# Altium schematic symbol library Connector.SchLib: 20 symbols
Pins are listed as number, name and electrical type; pins without a type are passive.

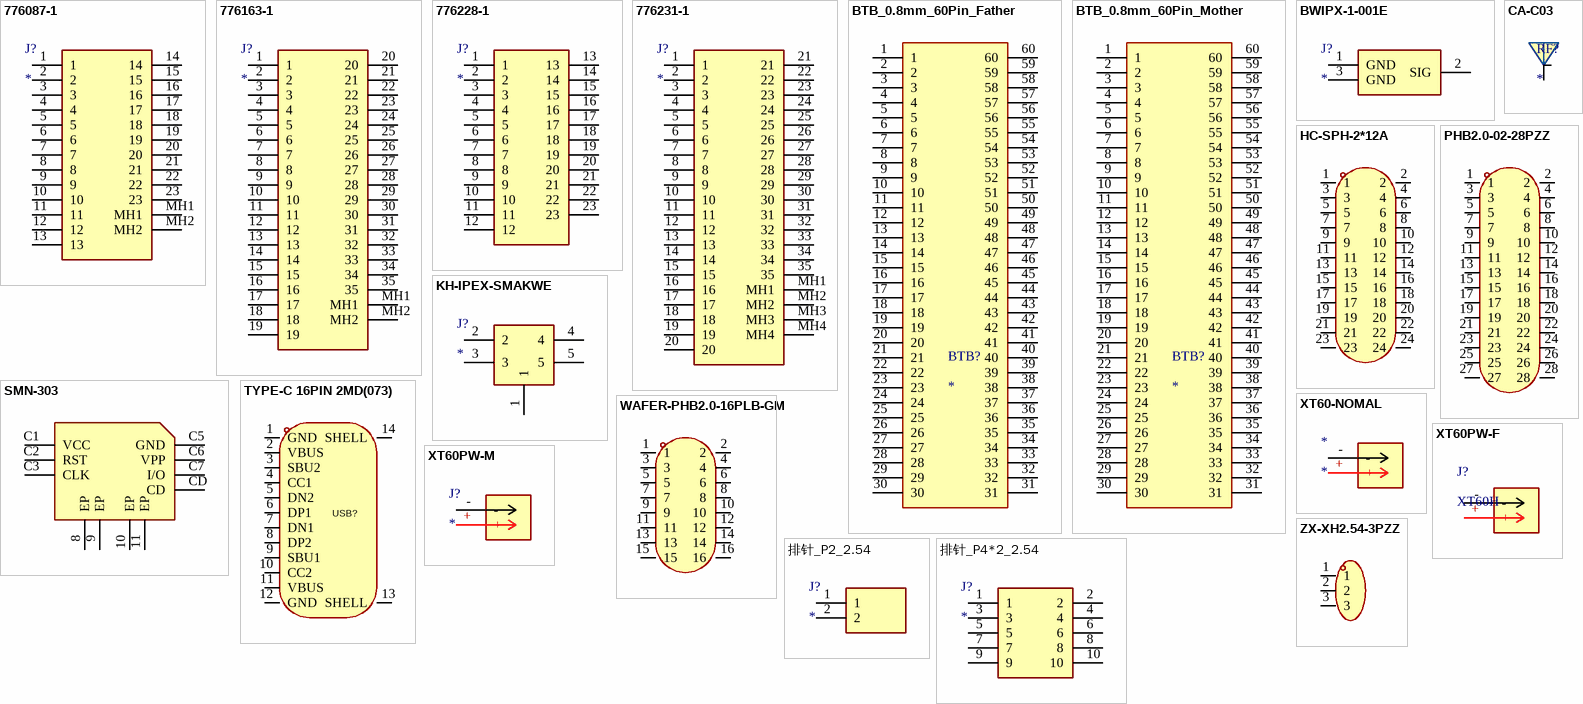
[diagram p0: symbols 776087-1 to 排针_P4*2_2.54]

## 776087-1
designator J?
Connector; Manufacturer_Name: TE Connectivity; Manufacturer_Part_Number: 776087-1; Datasheet Link: https://www.te.com/commerce/DocumentDelivery/DDEController?Action=srchrtrv&DocNm=1-1773979-2&DocType=Data%20Sheet&DocLang=English&PartCntxt=776087-1&DocFormat=pdf; Height: 32.1mm; Mouser Part Number: 571-776087-1; Mouser Price/Stock: https://www.mouser.co.uk/ProductDetail/TE-Connectivity/776087-1?qs=qXO2HHLAcoIjggUTPuCD9w%3D%3D; Arrow Part Number: 776087-1; Arrow Price/Stock: https://www.arrow.com/en/products/776087-1/te-connectivity?region=europe
footprint 7760871 (Footprint not found)
pins: 1, 2, 3, 4, 5, 6, 7, 8, 9, 10, 11, 12, 13, 14, 15, 16, 17, 18, 19, 20, 21, 22, 23, MH1, MH2

## 776163-1
designator J?
Connector; Manufacturer_Name: TE Connectivity; Manufacturer_Part_Number: 776163-1; Datasheet Link: https://www.te.com/commerce/DocumentDelivery/DDEController?Action=srchrtrv&DocNm=1-1773979-2&DocType=Data%20Sheet&DocLang=English&PartCntxt=776163-1&DocFormat=pdf; Height: 32.3mm; Mouser Part Number: 571-776163-1; Mouser Price/Stock: https://www.mouser.co.uk/ProductDetail/TE-Connectivity/776163-1?qs=YqNA2qefETCFEADUtQCEwA%3D%3D; Arrow Part Number: 776163-1; Arrow Price/Stock: https://www.arrow.com/en/products/776163-1/te-connectivity?region=nac
footprint 7761631 (Footprint not found)
pins: 1, 2, 3, 4, 5, 6, 7, 8, 9, 10, 11, 12, 13, 14, 15, 16, 17, 18, 19, 20, 21, 22, 23, 24, 25, 26, 27, 28, 29, 30, 31, 32, 33, 34, 35, MH1, MH2

## 776228-1
designator J?
Connector; Manufacturer_Name: TE Connectivity; Manufacturer_Part_Number: 776228-1; Datasheet Link: https://www.te.com/commerce/DocumentDelivery/DDEController?Action=srchrtrv&DocNm=1-1773979-2&DocType=Data%20Sheet&DocLang=English&PartCntxt=776228-1&DocFormat=pdf; Height: 34.25mm; Mouser Part Number: 571-776228-1; Mouser Price/Stock: https://www.mouser.co.uk/ProductDetail/TE-Connectivity/776228-1?qs=YqNA2qefETD31MBKizKIJw%3D%3D; Arrow Part Number: 776228-1; Arrow Price/Stock: https://www.arrow.com/en/products/776228-1/te-connectivity?region=europe
footprint 7762281 (Footprint not found)
pins: 1, 2, 3, 4, 5, 6, 7, 8, 9, 10, 11, 12, 13, 14, 15, 16, 17, 18, 19, 20, 21, 22, 23

## 776231-1
designator J?
Connector; Manufacturer_Name: TE Connectivity; Manufacturer_Part_Number: 776231-1; Datasheet Link: https://www.te.com/commerce/DocumentDelivery/DDEController?Action=srchrtrv&DocNm=1-1773979-2&DocType=Data%20Sheet&DocLang=English&PartCntxt=776231-1&DocFormat=pdf; Height: 34.25mm; Mouser Part Number: 571-776231-1; Mouser Price/Stock: https://www.mouser.co.uk/ProductDetail/TE-Connectivity/776231-1?qs=YqNA2qefETAQAJm2ankyIA%3D%3D; Arrow Part Number: 776231-1; Arrow Price/Stock: https://www.arrow.com/en/products/776231-1/te-connectivity?region=nac
footprint 7762311 (Footprint not found)
pins: 1, 2, 3, 4, 5, 6, 7, 8, 9, 10, 11, 12, 13, 14, 15, 16, 17, 18, 19, 20, 21, 22, 23, 24, 25, 26, 27, 28, 29, 30, 31, 32, 33, 34, 35, MH1, MH2, MH3, MH4

## BTB_0.8mm_60Pin_Father
designator BTB?
footprint BTB_0.8mm_60PIN_F (0.8单槽板对板公母座合高5.0，母座，60PIN)
pins: 1, 2, 3, 4, 5, 6, 7, 8, 9, 10, 11, 12, 13, 14, 15, 16, 17, 18, 19, 20, 21, 22, 23, 24, 25, 26, 27, 28, 29, 30, 31, 32, 33, 34, 35, 36, 37, 38, 39, 40, 41, 42, 43, 44, 45, 46, 47, 48, 49, 50, 51, 52, 53, 54, 55, 56, 57, 58, 59, 60

## BTB_0.8mm_60Pin_Mother
designator BTB?
footprint BTB_0.8mm_60PIN_M (0.8单槽板对板公母座合高5.0，公座，60PIN)
pins: 1, 2, 3, 4, 5, 6, 7, 8, 9, 10, 11, 12, 13, 14, 15, 16, 17, 18, 19, 20, 21, 22, 23, 24, 25, 26, 27, 28, 29, 30, 31, 32, 33, 34, 35, 36, 37, 38, 39, 40, 41, 42, 43, 44, 45, 46, 47, 48, 49, 50, 51, 52, 53, 54, 55, 56, 57, 58, 59, 60

## BWIPX-1-001E
designator J?
Connector; Manufacturer_Name: BAT WIRELESS; Manufacturer_Part_Number: BWIPX-1-001E; Datasheet Link: https://datasheet.lcsc.com/szlcsc/2012231509_BAT-WIRELESS-BWIPX-1-001E_C496552.pdf; Height: 1.45mm
footprint BWIPX1001E (Footprint not found)
pins: 1 GND, 2 SIG, 3 GND

## CA-C03
designator RF?
footprint CA-C03
pins: 1, 2

## HC-SPH-2*12A
designator CN??  (value not drawn)
Manufacturer: HCTL(华灿天禄); Add into BOM: yes; Pins Structure: 2x12P; Pitch: 2mm; Reference Series: PAD; Number of PINs Per Row: 12; Current Rating (Max): 3A; Rated Voltage (Max): 250V; Plastic Material: PA46; Flame Retardant Rating: UL94V-0; Supplementary Features: 带柱; Z-Height of the Board: 10.4mm; X-Length of Bottom Edge on Board (Spacing Line): 26mm; Y-Width of Bottom Edge on Board: 9.5mm; Symbol: HC-SPH-2*12A; Device: HC-SPH-2*12A; LCSC Part Name: 2x12P 间距:2mm 直插 系列:PAD; Supplier Part: C2845846; Manufacturer Part: HC-SPH-2*12A; Supplier Footprint: 插件,P=2mm; JLCPCB Part Class: Extended Part; Datasheet: https://atta.szlcsc.com/upload/public/pdf/source/20231019/C499567956C59AE407577BA9D62A36DA.pdf; Supplier: LCSC; Convert to PCB: yes; Mounting Style: 直插; Number of Pins: 24P; Number of Rows: 2; Row Spacing: 2mm; Contact Material: 黄铜; Contact Plating: 锡; Operating Temperature Range: -25℃~+85℃; Colour: -
footprint CONN-TH_8P-P2.00_HCTL_HC-SPH-2X12A
pins: 1, 2, 3, 4, 5, 6, 7, 8, 9, 10, 11, 12, 13, 14, 15, 16, 17, 18, 19, 20, 21, 22, 23, 24

## KH-IPEX-SMAKWE
designator J?
Connector; Manufacturer_Name: Shenzhen Kinghelm Elec; Manufacturer_Part_Number: KH-IPEX-SMAKWE; Datasheet Link: https://amel.ru/upload/iblock/99e/SMA-KWHD.pdf; Height: 9.7mm
footprint KHIPEXSMAKWE
pins: 1, 2, 3, 4, 5

## PHB2.0-02-28PZZ
designator U??  (value not drawn)
Manufacturer: XUNPU(讯普); Add into BOM: yes; Pins Structure: 2x14P; Pitch: 2mm; Number of PINs Per Row: 14; Current Rating (Max): 3A; Symbol: PHB2.0-02-28PZZ; Device: PHB2.0-02-28PZZ; LCSC Part Name: PHB2.0-02-28PZZ; Supplier Part: C19077315; Manufacturer Part: PHB2.0-02-28PZZ; Supplier Footprint: 插件,P=2mm; JLCPCB Part Class: Extended Part; Datasheet: https://atta.szlcsc.com/upload/public/pdf/source/20231025/E6D319634D2FEC92D75A874DF46F6A7E.pdf; Supplier: LCSC; Convert to PCB: yes; Mounting Style: 直插; Number of Pins: 28P; Number of Rows: 2; Row Spacing: 2mm; Operating Temperature Range: -25℃~+85℃
footprint CONN-TH_28P-P2.00_XUNPU_PHB2.0-02-28PZZ
pins: 1, 2, 3, 4, 5, 6, 7, 8, 9, 10, 11, 12, 13, 14, 15, 16, 17, 18, 19, 20, 21, 22, 23, 24, 25, 26, 27, 28

## SMN-303
designator CARD??  (value not drawn)
Manufacturer: XUNPU(讯普); Add into BOM: yes; Card Connection Mode: 自弹式; Card Type: NanoSIM卡; Connector Type: 卡座; Card Detection: 有插卡检测; Body Height (Max): 1.37mm; Symbol: SMN-303; Device: SMN-303; LCSC Part Name: 自弹式 NanoSIM卡 卡座; Supplier Part: C266888; Manufacturer Part: SMN-303; Supplier Footprint: SMD; JLCPCB Part Class: Extended Part; Datasheet: https://atta.szlcsc.com/upload/public/pdf/source/20230608/69FA23A73293DEADC31E393DD83871F4.pdf; Supplier: LCSC; Convert to PCB: yes; Supplementary Features: -; Operating Temperature Range: -40℃~+85℃
footprint SIM-SMD_SMN-303
pins: 8 EP, 9 EP, 10 EP, 11 EP, C1 VCC, C2 RST, C3 CLK, C5 GND, C6 VPP, C7 I/O, CD

## TYPE-C 16PIN 2MD(073)
designator USB?  (value not drawn)
Manufacturer: SHOU HAN(首韩); Add into BOM: yes; Gender: 母; Number of Contacts: 16P; Number of Ports: 1; Current Rating - Power (Max): 5A; Rated Voltage (Max): 5V; Connect-Disconnect Life: 5千次; Core Colour: 黑色; Symbol: TYPE-C 16PIN 2MD(073); Device: TYPE-C 16PIN 2MD(073); LCSC Part Name: Type-C 母 卧贴; Supplier Part: C2765186; Manufacturer Part: TYPE-C 16PIN 2MD(073); Supplier Footprint: SMD; JLCPCB Part Class: Extended Part; Datasheet: https://atta.szlcsc.com/upload/public/pdf/source/20211123/39B17C16241EAC15C5E277BDA434118E.pdf; Supplier: LCSC; Convert to PCB: yes; Connector Type: Type-C; Standard: USB 3.1; Mounting Style: 卧贴; Operating Temperature Range: -25℃~+85℃
footprint USB-C-SMD_TYPE-C-6PIN-2MD-073 (Footprint not found)
pins: 1 GND, 2 VBUS, 3 SBU2, 4 CC1, 5 DN2, 6 DP1, 7 DN1, 8 DP2, 9 SBU1, 10 CC2, 11 VBUS, 12 GND, 13 SHELL, 14 SHELL

## WAFER-PHB2.0-16PLB-GM
designator U??  (value not drawn)
Manufacturer: XUNPU(讯普); Add into BOM: yes; Pins Structure: 2x8P; Pitch: 2mm; Number of PINs Per Row: 8; Current Rating (Max): 3A; Symbol: WAFER-PHB2.0-16PLB-GM; Device: WAFER-PHB2.0-16PLB-GM; LCSC Part Name: WAFER-PHB2.0-16PLB-GM; Supplier Part: C19077332; Manufacturer Part: WAFER-PHB2.0-16PLB-GM; Supplier Footprint: SMD,P=2mm; JLCPCB Part Class: Extended Part; Datasheet: https://atta.szlcsc.com/upload/public/pdf/source/20231025/C68EEBD53B64CED686D2DB97FB73AC2C.pdf; Supplier: LCSC; Convert to PCB: yes; Mounting Style: 立贴; Number of Pins: 16P; Number of Rows: 2; Row Spacing: 2mm; Contact Material: 黄铜; Contact Plating: 锡; Operating Temperature Range: -25℃~+85℃
footprint CONN-SMD_16P-P2.00_XUNPU_WAFER-PHB2.0-16PLB-GM
pins: 1, 2, 3, 4, 5, 6, 7, 8, 9, 10, 11, 12, 13, 14, 15, 16

## XT60-NOMAL
designator *
footprint AMASS_XT60_NOMAL
pins: +, -

## XT60PW-F
designator J?, comment XT60H
Type: XT60H
footprint AMASS_XT60PW_F
footprint AMASS_XT60_NOMAL
pins: +, -

## XT60PW-M
designator J?
Connector; Manufacturer_Name: Changzou Amass Elec; Manufacturer_Part_Number: XT60PW-M; Datasheet Link: https://www.tme.eu/Document/9b8d0c5eb7094295f3d3112c214d3ade/XT60PW%20SPEC.pdf; Height: 8.4mm
footprint AMASS_XT60PW_M
pins: +, -

## ZX-XH2.54-3PZZ
designator CN??  (value not drawn)
Manufacturer: Megastar(兆星); Add into BOM: yes; Pins Structure: 1x3P; Pitch: 2.54mm; Reference Series: XH; Number of PINs Per Row: 3; Current Rating (Max): 3A; Symbol: ZX-XH2.54-3PZZ; Device: ZX-XH2.54-3PZZ; LCSC Part Name: ZX-XH2.54-3PZZ; Supplier Part: C7429633; Manufacturer Part: ZX-XH2.54-3PZZ; Supplier Footprint: 插件,P=2.54mm; JLCPCB Part Class: Extended Part; Datasheet: https://atta.szlcsc.com/upload/public/pdf/source/20230619/AE17037A2CFDBE8D9CBA775D61AD0A84.pdf; Supplier: LCSC; Convert to PCB: yes; Mounting Style: 直插; Number of Pins: 3P; Number of Rows: 1; Row Spacing: -; Contact Material: 黄铜; Contact Plating: 锡; Operating Temperature Range: -25℃~+85℃
footprint CONN-TH_3P-P2.54_2501S-3P (Footprint not found)
pins: 1, 2, 3

## 排针_P2_2.54
designator J?
Connector; Manufacturer_Name: Ckmtw(Shenzhen Cankemeng); Manufacturer_Part_Number: B-2100S02P-A110; Datasheet Link: https://datasheet.lcsc.com/lcsc/2210192330_Ckmtw-Shenzhen-Cankemeng-B-2100S02P-A110_C124375.pdf; Height: 8.8mm
footprint HDRV2W66P0X254_1X2_508X250X880P (Footprint not found)
pins: 1, 2

## 排针_P4*2_2.54
designator J?
Connector; Manufacturer_Name: Megastar; Manufacturer_Part_Number: ZX-PZ2.54-2-5PZZ; Datasheet Link: https://www.lcsc.com/datasheet/lcsc_datasheet_2311221544_Megastar-ZX-PZ2-54-2-5PZZ_C7501276.pdf; Height: 8.7mm
footprint ZXPZ25425PZZ
pins: 1, 2, 3, 4, 5, 6, 7, 8, 9, 10